# Altium integrated library TPD2E001DRLRG4.IntLib: 1 symbol
Pins are listed as number, name and electrical type; pins without a type are passive.

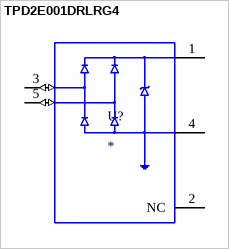
[diagram p0: symbol TPD2E001DRLRG4]

## TPD2E001DRLRG4
designator U?
Low-capacitance 2-channel +/-15k-V ESD protection array for high-speed data interfaces 5-SOT-5X3 -40 to 85; MP: TPD2E001DRLRG4; Package: None; Value: *; Availability: Unavailable; Price: None
footprint SOTFL50P160X60-5N
pins: 1 VCC (power), 2 NC, 3 IO1 (io), 4 GND (power), 5 IO2 (io)